# EAGLE library part LMZ1050 (library TI-Eagle_library)
650mA/1A SIMPLE SWITCHER® Nano Module with 5.5V Maximum Input Voltage
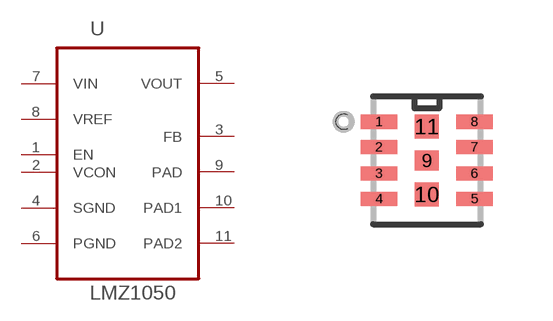
[diagram p0: symbol with the pads of TI_NANO_MODULE; footprint TI_NANO_MODULE]

Designator prefix U

## LMZ10500SEE (MPN: LMZ10500SEE; OC_FARNELL: 2064703; OC_NEWARK: 62T1991; PACKAGE: NANO MODULE; SUPPLIER: TEXAS INSTRUMENTS), LMZ10501SEE (MPN: LMZ10501SEE; OC_FARNELL: 2064701; OC_NEWARK: 75T7405; PACKAGE: NANO MODULE; SUPPLIER: TEXAS INSTRUMENTS), LMZ10501SEE/NOPB (MPN: LMZ10501SEE/NOPB; OC_FARNELL: 2296037; OC_NEWARK: 62T1993; PACKAGE: NANO MODULE; SUPPLIER: TEXAS INSTRUMENTS)  [TI_NANO_MODULE]
1  EN  in
2  VCON  pas
3  FB  in
4  SGND  pas
5  VOUT  out
6  PGND  pas
7  VIN  pwr
8  VREF  out
9  PAD  pas
10  PAD1  pas
11  PAD2  pas

## Footprint TI_NANO_MODULE (pad centres in mm)
smd 0.914 x 0.356: 1 -1.194,0.965; 2 -1.194,0.33; 3 -1.194,-0.33; 4 -1.194,-0.965; 5 1.194,-0.965; 6 1.194,-0.33; 7 1.194,0.33; 8 1.194,0.965
smd 0.6 x 0.5: 9 0,0
smd 0.6 x 0.6: 10 0,-0.85; 11 0,0.85